# EAGLE library part PD0922J5050S2HF (library HPG_Solution_v1.0)
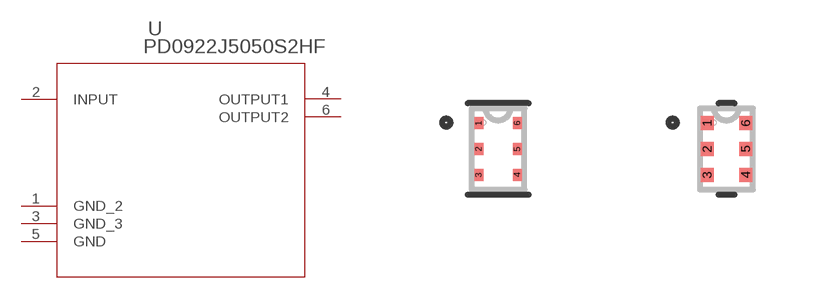
[diagram p0: symbol with the pads of PD0922J5050S2HF_ANA; footprints PD0922J5050S2HF_ANA, PD0922J5050S2HF_ANA-M]

Designator prefix U

## PD0922J5050S2HF (COPYRIGHT: Copyright (C) 2022 Ultra Librarian. All rights reserved.; DIGI-KEY_PART_NUMBER_1: 1173-1094-2-ND; DIGI-KEY_PART_NUMBER_2: 1173-1094-1-ND; DIGI-KEY_PART_NUMBER_3: 1173-1094-6-ND; MANUFACTURER_PART_NUMBER: PD0922J5050S2HF; MFR_NAME: Anaren Microwave)  [PD0922J5050S2HF_ANA]
1  GND_2  pas
2  INPUT  in
3  GND_3  pas
4  OUTPUT1  out
5  GND  pas
6  OUTPUT2  out

## PD0922J5050S2HFPD0922J5050S2HF_ANA-M (COPYRIGHT: Copyright (C) 2022 Ultra Librarian. All rights reserved.; DIGI-KEY_PART_NUMBER_1: 1173-1094-2-ND; DIGI-KEY_PART_NUMBER_2: 1173-1094-1-ND; DIGI-KEY_PART_NUMBER_3: 1173-1094-6-ND; MANUFACTURER_PART_NUMBER: PD0922J5050S2HF; MFR_NAME: Anaren Microwave)  [PD0922J5050S2HF_ANA-M]
Pads as for PD0922J5050S2HF_ANA

## PD0922J5050S2HFPD0922J5050S2HF_ANA-L (COPYRIGHT: Copyright (C) 2022 Ultra Librarian. All rights reserved.; DIGI-KEY_PART_NUMBER_1: 1173-1094-2-ND; DIGI-KEY_PART_NUMBER_2: 1173-1094-1-ND; DIGI-KEY_PART_NUMBER_3: 1173-1094-6-ND; MANUFACTURER_PART_NUMBER: PD0922J5050S2HF; MFR_NAME: Anaren Microwave)  [PD0922J5050S2HF_ANA-L]
Pads as for PD0922J5050S2HF_ANA

## Footprint PD0922J5050S2HF_ANA (pad centres in mm)
smd 0.229 x 0.305: 1 -0.483,0.65; 2 -0.483,0; 3 -0.483,-0.65; 4 0.483,-0.65; 5 0.483,0; 6 0.483,0.65

## Footprint PD0922J5050S2HF_ANA-M (pad centres in mm)
smd 0.33 x 0.356: 1 -0.483,0.65; 2 -0.483,0; 3 -0.483,-0.65; 4 0.483,-0.65; 5 0.483,0; 6 0.483,0.65

## Footprint PD0922J5050S2HF_ANA-L (pad centres in mm)
smd 0.127 x 0.254: 1 -0.483,0.65; 2 -0.483,0; 3 -0.483,-0.65; 4 0.483,-0.65; 5 0.483,0; 6 0.483,0.65